# Altium schematic symbol library Current Sensors.SchLib: 1 symbol
Pins are listed as number, name and electrical type; pins without a type are passive.

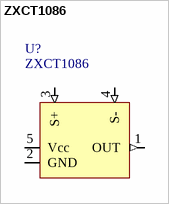
[diagram p0: symbol ZXCT1086]

## ZXCT1086
designator U?  value ZXCT1086  (hidden comment: *)
ZXCT1086; Catalog: *; Catalog page: *; Price: *
footprint SOT23-5AL (SOT23, 5-Leads, Body 2.9x1.6mm, Pitch 0.95mm, Lead Span 2.8mm, IPC High Density)
pins: 1 OUT (out), 2 GND (power), 3 S+ (in), 4 S- (in), 5 Vcc (power)